# EAGLE library part SATA-FEMALE (library rocket)
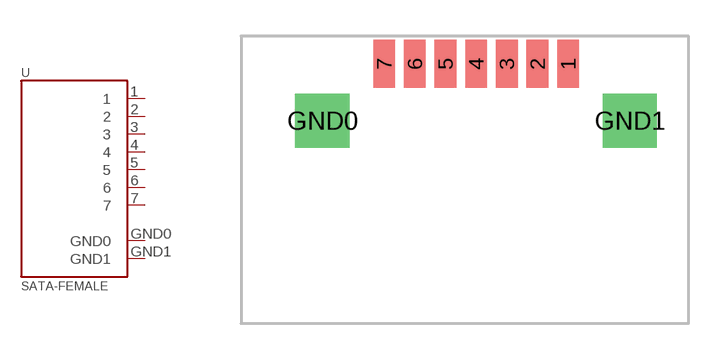
[diagram p7: symbol with the pads of SATA-MOLEX_47080; footprint SATA-MOLEX_47080]

Designator prefix -

## SATA-FEMALE  [SATA-MOLEX_47080]
1  1
2  2
3  3
4  4
5  5
6  6
7  7
GND0  GND0
GND1  GND1

## Footprint SATA-MOLEX_47080 (pad centres in mm)
smd 0.9 x 2: 1 3.81,0; 2 2.54,0; 3 1.27,0; 4 0,0; 5 -1.27,0; 6 -2.54,0; 7 -3.81,0
drill 1.5 square: GND0 -6.37,-2.36; GND1 6.37,-2.36